# EAGLE library part FT2232H-56Q (library CHIP_PRO_Dev-Kit)
DUAL HIGH SPEED USB TO MULTIPURPOSE UART/FIFO IC
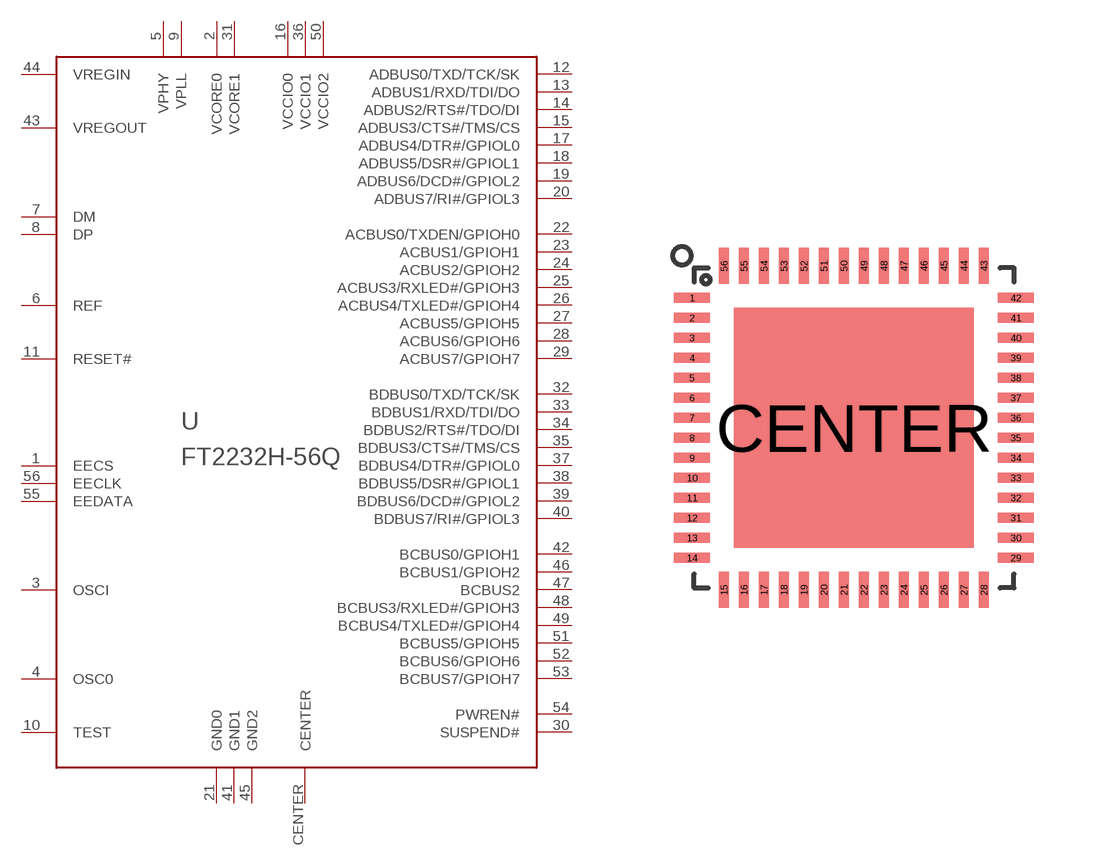
[diagram p5: symbol with the pads of QFN56_8_X_8_LARGE; footprint QFN56_8_X_8_LARGE]

Designator prefix -

## FT2232H-56Q  [QFN56_8_X_8_LARGE]
1  EECS
2  VCORE0
3  OSCI
4  OSC0
5  VPHY
6  REF
7  DM
8  DP
9  VPLL
10  TEST
11  RESET#
12  ADBUS0/TXD/TCK/SK
13  ADBUS1/RXD/TDI/DO
14  ADBUS2/RTS#/TDO/DI
15  ADBUS3/CTS#/TMS/CS
16  VCCIO0
17  ADBUS4/DTR#/GPIOL0
18  ADBUS5/DSR#/GPIOL1
19  ADBUS6/DCD#/GPIOL2
20  ADBUS7/RI#/GPIOL3
21  GND0
22  ACBUS0/TXDEN/GPIOH0
23  ACBUS1/GPIOH1
24  ACBUS2/GPIOH2
25  ACBUS3/RXLED#/GPIOH3
26  ACBUS4/TXLED#/GPIOH4
27  ACBUS5/GPIOH5
28  ACBUS6/GPIOH6
29  ACBUS7/GPIOH7
30  SUSPEND#
31  VCORE1
32  BDBUS0/TXD/TCK/SK
33  BDBUS1/RXD/TDI/DO
34  BDBUS2/RTS#/TDO/DI
35  BDBUS3/CTS#/TMS/CS
36  VCCIO1
37  BDBUS4/DTR#/GPIOL0
38  BDBUS5/DSR#/GPIOL1
39  BDBUS6/DCD#/GPIOL2
40  BDBUS7/RI#/GPIOL3
41  GND1
42  BCBUS0/GPIOH1
43  VREGOUT
44  VREGIN
45  GND2
46  BCBUS1/GPIOH2
47  BCBUS2
48  BCBUS3/RXLED#/GPIOH3
49  BCBUS4/TXLED#/GPIOH4
50  VCCIO2
51  BCBUS5/GPIOH5
52  BCBUS6/GPIOH6
53  BCBUS7/GPIOH7
54  PWREN#
55  EEDATA
56  EECLK
CENTER  CENTER

## Footprint QFN56_8_X_8_LARGE (pad centres in mm)
smd 0.9 x 0.25: 1 -4.05,3.25; 2 -4.05,2.75; 3 -4.05,2.25; 4 -4.05,1.75; 5 -4.05,1.25; 6 -4.05,0.75; 7 -4.05,0.25; 8 -4.05,-0.25; 9 -4.05,-0.75; 10 -4.05,-1.25; 11 -4.05,-1.75; 12 -4.05,-2.25; 13 -4.05,-2.75; 14 -4.05,-3.25; 29 4.05,-3.25; 30 4.05,-2.75; 31 4.05,-2.25; 32 4.05,-1.75; 33 4.05,-1.25; 34 4.05,-0.75; 35 4.05,-0.25; 36 4.05,0.25; 37 4.05,0.75; 38 4.05,1.25; 39 4.05,1.75; 40 4.05,2.25; 41 4.05,2.75; 42 4.05,3.25
smd 0.25 x 0.9: 15 -3.25,-4.05; 16 -2.75,-4.05; 17 -2.25,-4.05; 18 -1.75,-4.05; 19 -1.25,-4.05; 20 -0.75,-4.05; 21 -0.25,-4.05; 22 0.25,-4.05; 23 0.75,-4.05; 24 1.25,-4.05; 25 1.75,-4.05; 26 2.25,-4.05; 27 2.75,-4.05; 28 3.25,-4.05; 43 3.25,4.05; 44 2.75,4.05; 45 2.25,4.05; 46 1.75,4.05; 47 1.25,4.05; 48 0.75,4.05; 49 0.25,4.05; 50 -0.25,4.05; 51 -0.75,4.05; 52 -1.25,4.05; 53 -1.75,4.05; 54 -2.25,4.05; 55 -2.75,4.05; 56 -3.25,4.05
smd 6 x 6: CENTER 0,0